# EAGLE library part EC11EBB24C03 (library EC11EBB24C03)
Alps 15 Pulse Incremental Mechanical Rotary Encoder with a 3.5 (Inner Shaft) mm, 6 (Outer Shaft) mm Source: Datasheet <https://componentsearchengine.com/Datasheets/2/EC11EBB24C03.pdf>
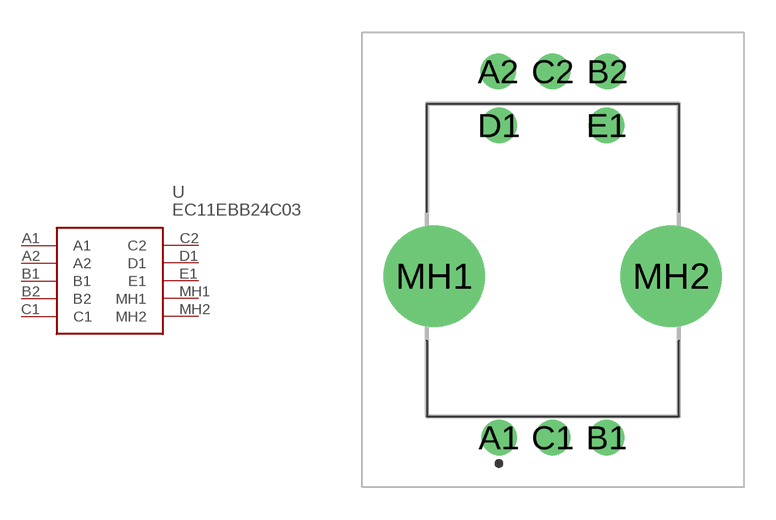
[diagram p0: symbol with the pads of EC11EBB24C03; footprint EC11EBB24C03]

Designator prefix U

## EC11EBB24C03 (Description: Alps 15 Pulse Incremental Mechanical Rotary Encoder with a 3.5 (Inner Shaft) mm, 6 (Outer Shaft) mm; Height: 33mm; Manufacturer_Name: ALPS Electric; Manufacturer_Part_Number: EC11EBB24C03; Mouser_Part_Number: 688-EC11EBB24C03; Mouser_Price-Stock: https://www.mouser.co.uk/ProductDetail/Alps-Alpine/EC11EBB24C03?qs=m0BA540hBPc5hAJ6UyzIrA%3D%3D)  [EC11EBB24C03]
A1  A1
A2  A2
B1  B1
B2  B2
C1  C1
C2  C2
D1  D1
E1  E1
MH1  MH1
MH2  MH2

## Footprint EC11EBB24C03 (pad centres in mm)
EC11E
drill 1.1 pad 1.65: A1 0,0; A2 -0.04,17; B1 5,0; B2 5.04,17; C1 2.5,0; C2 2.5,17; D1 0,14.5; E1 5,14.5
drill 3.139 pad 4.708: MH1 -3,7.5; MH2 8,7.5